# Altium integrated library ARAF_PERSONAL_INTEGRATED_LIBRARY.IntLib: 28 symbols
Pins are listed as number, name and electrical type; pins without a type are passive.

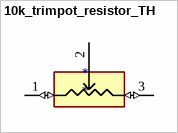
[diagram p0: symbol 10k_trimpot_resistor_TH]

## 10k_trimpot_resistor_TH
designator *
footprint TRIMPOT_TYPE1
pins: 1 (io), 2, 3 (io)


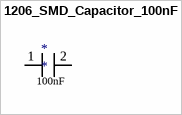
[diagram p1: symbol 1206_SMD_Capacitor_100nF]

## 1206_SMD_Capacitor_100nF
designator *
footprint 1206_SMD_Capacitor_100nF (Chip Capacitor, 2-Leads, Body 4.05x1.80mm, IPC Medium Density)
pins: 1, 2
text: 100nF


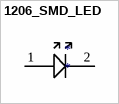
[diagram p2: symbol 1206_SMD_LED]

## 1206_SMD_LED
designator *
footprint 1206_SMD_LED
pins: 1 (power), 2 (power)


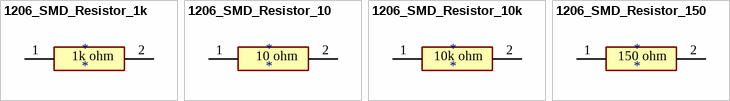
[diagram p3: symbols 1206_SMD_Resistor_1k to 1206_SMD_Resistor_150]

## 1206_SMD_Resistor_1k
designator *
footprint 1206_SMD_RESISTOR_1k (Chip Resistor, 2-Leads, Body 4.50x1.75mm, IPC Medium Density)
pins: 1, 2
text: 1k ohm

## 1206_SMD_Resistor_10
designator *
footprint 1206_SMD_RESISTOR_10 (Chip Resistor, 2-Leads, Body 4.50x1.75mm, IPC Medium Density)
pins: 1, 2
text: 10 ohm

## 1206_SMD_Resistor_10k
designator *
footprint 1206_SMD_RESISTOR_10k (Chip Resistor, 2-Leads, Body 4.50x1.75mm, IPC Medium Density)
pins: 1, 2
text: 10k ohm

## 1206_SMD_Resistor_150
designator *
footprint 1206_SMD_RESISTOR_150 (Chip Resistor, 2-Leads, Body 4.50x1.75mm, IPC Medium Density)
pins: 1, 2
text: 150 ohm


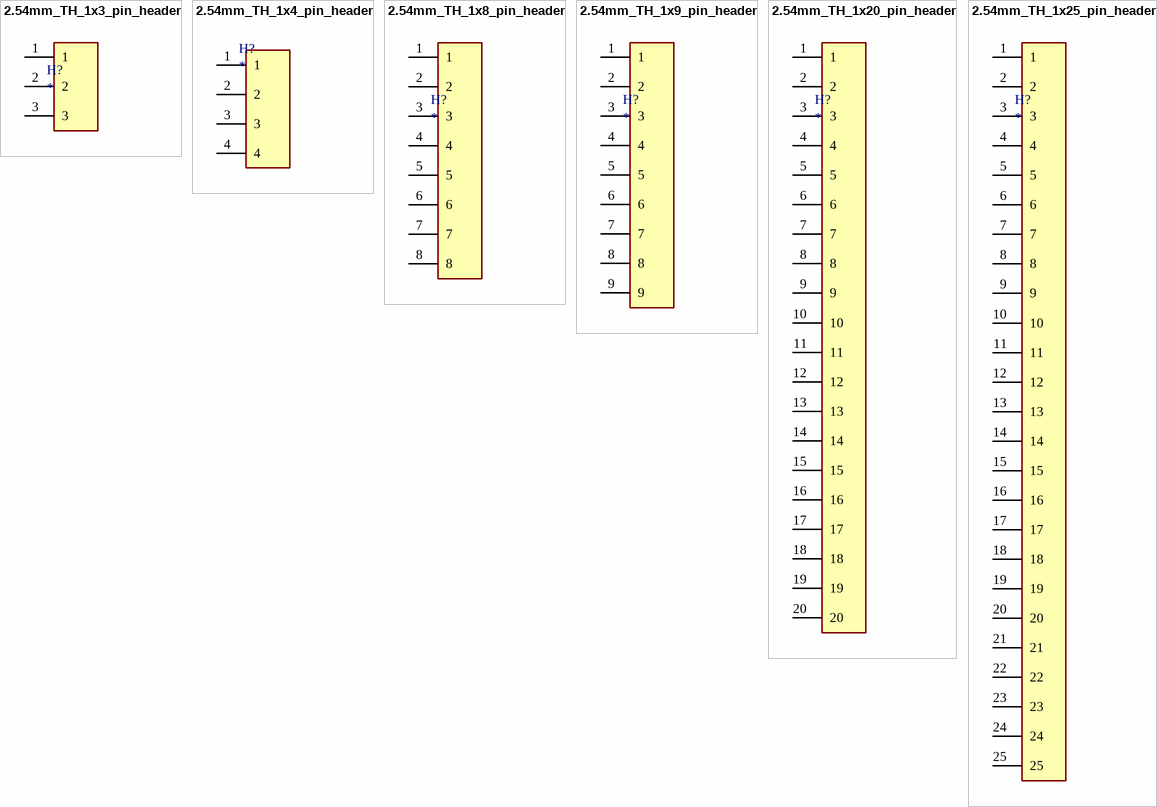
[diagram p4: symbols 2.54mm_TH_1x3_pin_header to 2.54mm_TH_1x25_pin_header]

## 2.54mm_TH_1x3_pin_header
designator H?
footprint 2.54mm_TH_1x3_pin_header
pins: 1, 2, 3

## 2.54mm_TH_1x4_pin_header
designator H?
footprint 2.54mm_TH_1x4_pin_header
pins: 1, 2, 3, 4

## 2.54mm_TH_1x8_pin_header
designator H?
footprint 2.54mm_TH_1x8_pin_header
pins: 1, 2, 3, 4, 5, 6, 7, 8

## 2.54mm_TH_1x9_pin_header
designator H?
footprint 2.54mm_TH_1x9_pin_header
pins: 1, 2, 3, 4, 5, 6, 7, 8, 9

## 2.54mm_TH_1x20_pin_header
designator H?
footprint 2.54mm_TH_1x20_pin_header
pins: 1, 2, 3, 4, 5, 6, 7, 8, 9, 10, 11, 12, 13, 14, 15, 16, 17, 18, 19, 20

## 2.54mm_TH_1x25_pin_header
designator H?
footprint 2.54mm_TH_1x25_pin_header
pins: 1, 2, 3, 4, 5, 6, 7, 8, 9, 10, 11, 12, 13, 14, 15, 16, 17, 18, 19, 20, 21, 22, 23, 24, 25


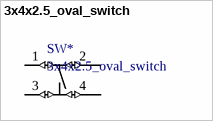
[diagram p5: symbol 3x4x2.5_oval_switch]

## 3x4x2.5_oval_switch
designator SW*
footprint 3x4x2.5_oval_button_footprint
pins: 1 (io), 2 (io), 3 (io), 4 (io)


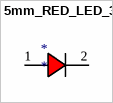
[diagram p6: symbol 5mm_RED_LED_3V]

## 5mm_RED_LED_3V
designator *
footprint 5mm_LED_3V
pins: 1, 2


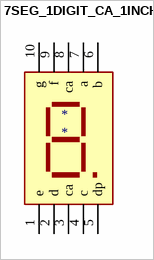
[diagram p7: symbol 7SEG_1DIGIT_CA_1INCH]

## 7SEG_1DIGIT_CA_1INCH
designator *
footprint 7SEG_1DIGIT_CA_1INCH
pins: 1 e, 2 d, 3 ca (power), 4 c, 5 dp, 6 b, 7 a, 8 ca (power), 9 f, 10 g


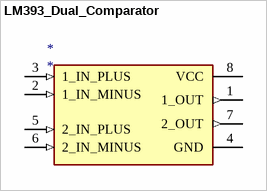
[diagram p8: symbol LM393_Dual_Comparator]

## LM393_Dual_Comparator
designator *
footprint LM393_Dual_Comparator
pins: 1 1_OUT (out), 2 1_IN_MINUS (in), 3 1_IN_PLUS (in), 4 GND (power), 5 2_IN_PLUS (in), 6 2_IN_MINUS (in), 7 2_OUT (out), 8 VCC (power)


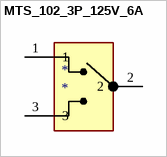
[diagram p9: symbol MTS_102_3P_125V_6A]

## MTS_102_3P_125V_6A
designator *
footprint MTS_102_3P_125V_6A
pins: 1 (power), 2 (power), 3 (power)


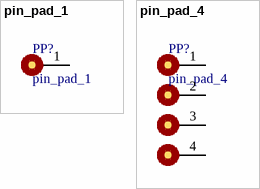
[diagram p10: symbols pin_pad_1 to pin_pad_4]

## pin_pad_1
designator PP?
footprint pinpad_1
pins: 1

## pin_pad_4
designator PP?
footprint pinpad_4
pins: 1, 2, 3, 4


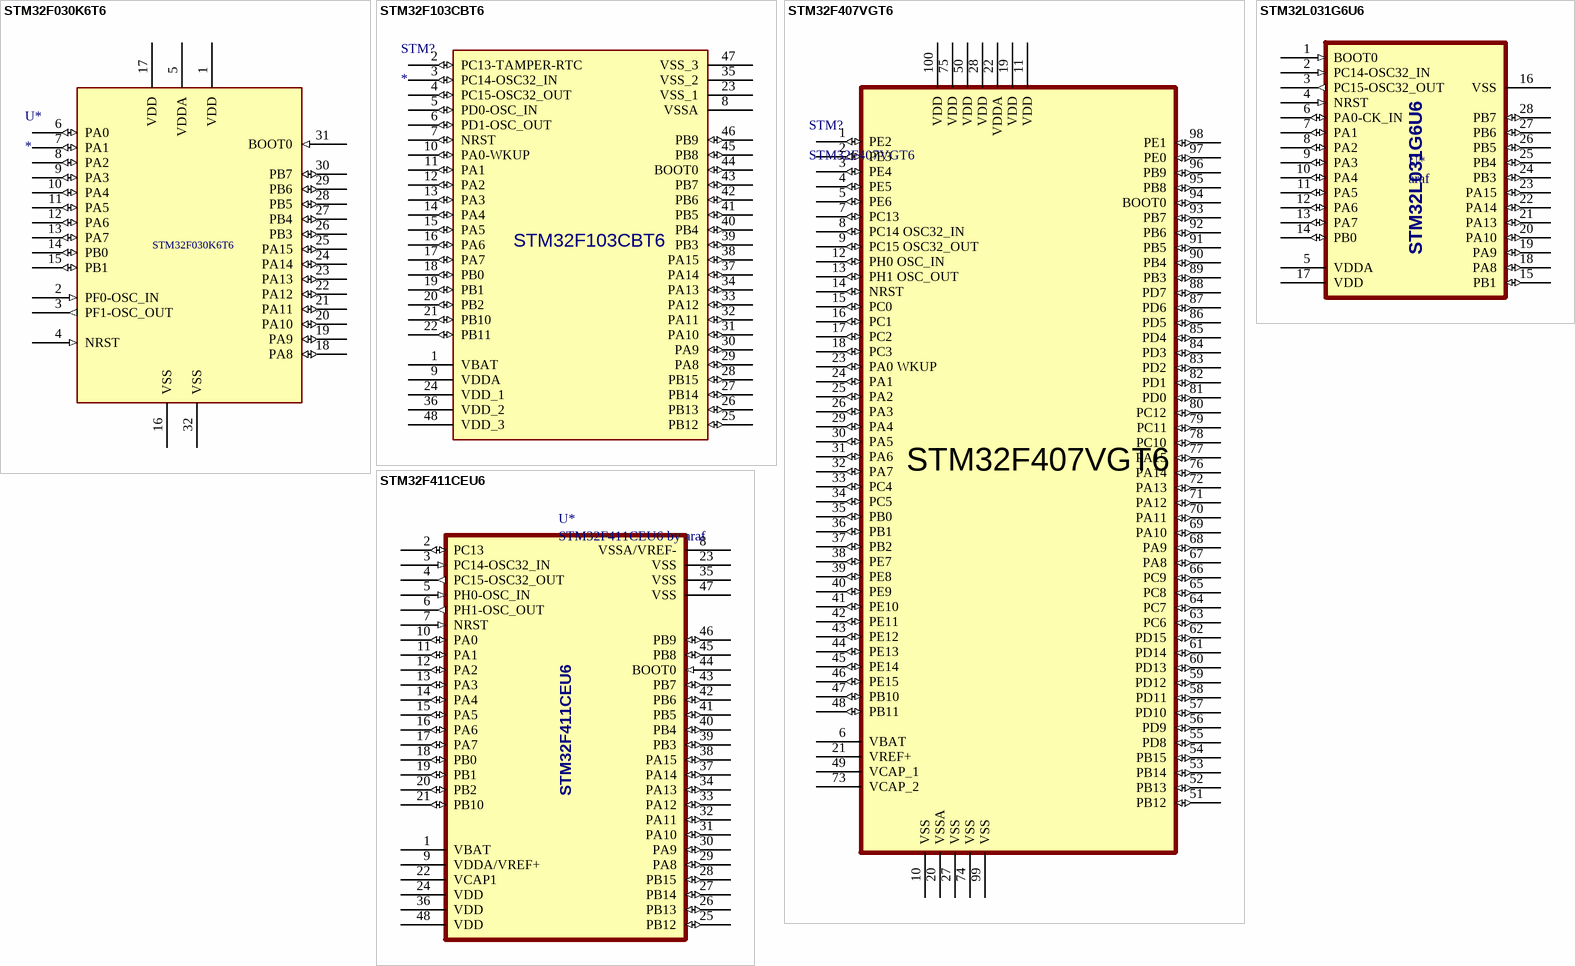
[diagram p11: symbols STM32F030K6T6 to STM32L031G6U6]

## STM32F030K6T6
designator U*
Pin Number: 32; Memory Size: 32KB; Speed: 48Mhz; Ram Size: 4KB; ComponentLink1Description: aliexpress_link; ComponentLink1URL: https://www.aliexpress.com/item/1005003777679758.html?spm=a2g0o.order_list.order_list_main.51.54fd1802wI9Dox; ComponentLink2Description: datasheet; ComponentLink2URL: https://www.lcsc.com/datasheet/lcsc_datasheet_2304140030_STMicroelectronics-STM32F030K6T6_C46830.pdf; Package Size: 32-LQFP; Stock: 8; LCSC Part: C46830; Series: STM32F0
footprint STM32F030K6T6_Footprint
pins: 1 VDD (power), 2 PF0-OSC_IN (in), 3 PF1-OSC_OUT (out), 4 NRST (in), 5 VDDA (power), 6 PA0 (io), 7 PA1 (io), 8 PA2 (io), 9 PA3 (io), 10 PA4 (io), 11 PA5 (io), 12 PA6 (io), 13 PA7 (io), 14 PB0 (io), 15 PB1 (io), 16 VSS (power), 17 VDD (power), 18 PA8 (io), 19 PA9 (io), 20 PA10 (io), 21 PA11 (io), 22 PA12 (io), 23 PA13 (io), 24 PA14 (io), 25 PA15 (io), 26 PB3 (io), 27 PB4 (io), 28 PB5 (io), 29 PB6 (io), 30 PB7 (io), 31 BOOT0 (in), 32 VSS (power)

## STM32F103CBT6
designator STM?
128KB 2V~3.6V ARM-M3 20KB 72MHz FLASH 37 LQFP-48(7x7) Microcontrollers (MCU/MPU/SOC) ROHS; MFR.Part #: STM32F103CBT6; JLCPCB Part #: C8304; Package: LQFP-48; ComponentLink1Description: Datasheet; ComponentLink1URL: https://www.st.com/resource/en/datasheet/cd00161566.pdf; ComponentLink2Description: JLCPCB Parts; ComponentLink2URL: https://jlcpcb.com/partdetail/Stmicroelectronics-STM32F103CBT6/C8304
footprint STM32F103CBT6_FOOTPRINT (TSQFP, 48-Leads, Body 7.00x7.00mm, Pitch 0.50mm, IPC Medium Density)
pins: 1 VBAT (power), 2 PC13-TAMPER-RTC (io), 3 PC14-OSC32_IN (io), 4 PC15-OSC32_OUT (io), 5 PD0-OSC_IN (io), 6 PD1-OSC_OUT (io), 7 NRST (io), 8 VSSA (power), 9 VDDA (power), 10 PA0-WKUP (io), 11 PA1 (io), 12 PA2 (io), 13 PA3 (io), 14 PA4 (io), 15 PA5 (io), 16 PA6 (io), 17 PA7 (io), 18 PB0 (io), 19 PB1 (io), 20 PB2 (io), 21 PB10 (io), 22 PB11 (io), 23 VSS_1 (power), 24 VDD_1 (power), 25 PB12 (io), 26 PB13 (io), 27 PB14 (io), 28 PB15 (io), 29 PA8 (io), 30 PA9 (io), 31 PA10 (io), 32 PA11 (io), 33 PA12 (io), 34 PA13 (io), 35 VSS_2 (power), 36 VDD_2 (power), 37 PA14 (io), 38 PA15 (io), 39 PB3 (io), 40 PB4 (io), 41 PB5 (io), 42 PB6 (io), 43 PB7 (io), 44 BOOT0 (io), 45 PB8 (io), 46 PB9 (io), 47 VSS_3 (power), 48 VDD_3 (power)

## STM32F407VGT6
designator STM?
1MB 1.8V~3.6V ARM-M4 192KB 168MHz FLASH 82 LQFP-100(14x14) Microcontrollers (MCU/MPU/SOC) ROHS; JLCPCB Part #: C12345; Package: LQFP-100(14x14); MFR.Part #: STM32F407VGT6; ComponentLink1Description: Datasheet; ComponentLink1URL: https://www.st.com/resource/en/datasheet/dm00037051.pdf; ComponentLink2Description: JLCPCB Parts; ComponentLink2URL: https://jlcpcb.com/partdetail/Stmicroelectronics-STM32F407VGT6/C12345
footprint STM32F407VGT6_FOOTPRINT
pins: 1 PE2 (io), 2 PE3 (io), 3 PE4 (io), 4 PE5 (io), 5 PE6 (io), 6 VBAT (power), 7 PC13 (io), 8 PC14 OSC32_IN (io), 9 PC15 OSC32_OUT (io), 10 VSS (power), 11 VDD (power), 12 PH0 OSC_IN (io), 13 PH1 OSC_OUT (io), 14 NRST (io), 15 PC0 (io), 16 PC1 (io), 17 PC2 (io), 18 PC3 (io), 19 VDD (power), 20 VSSA (power), 21 VREF+ (power), 22 VDDA (power), 23 PA0 WKUP (io), 24 PA1 (io), 25 PA2 (io), 26 PA3 (io), 27 VSS (power), 28 VDD (power), 29 PA4 (io), 30 PA5 (io), 31 PA6 (io), 32 PA7 (io), 33 PC4 (io), 34 PC5 (io), 35 PB0 (io), 36 PB1 (io), 37 PB2 (io), 38 PE7 (io), 39 PE8 (io), 40 PE9 (io), 41 PE10 (io), 42 PE11 (io), 43 PE12 (io), 44 PE13 (io), 45 PE14 (io), 46 PE15 (io), 47 PB10 (io), 48 PB11 (io), 49 VCAP_1 (power), 50 VDD (power), 51 PB12 (io), 52 PB13 (io), 53 PB14 (io), 54 PB15 (io), 55 PD8 (io), 56 PD9 (io), 57 PD10 (io), 58 PD11 (io), 59 PD12 (io), 60 PD13 (io), 61 PD14 (io), 62 PD15 (io), 63 PC6 (io), 64 PC7 (io), 65 PC8 (io), 66 PC9 (io), 67 PA8 (io), 68 PA9 (io), 69 PA10 (io), 70 PA11 (io), 71 PA12 (io), 72 PA13 (io), 73 VCAP_2 (power), 74 VSS (power), 75 VDD (power), 76 PA14 (io), 77 PA15 (io), 78 PC10 (io), 79 PC11 (io), 80 PC12 (io), 81 PD0 (io), 82 PD1 (io), 83 PD2 (io), 84 PD3 (io), 85 PD4 (io), 86 PD5 (io), 87 PD6 (io), 88 PD7 (io), 89 PB3 (io), 90 PB4 (io), 91 PB5 (io), 92 PB6 (io), 93 PB7 (io), 94 BOOT0 (io), 95 PB8 (io), 96 PB9 (io), 97 PE0 (io), 98 PE1 (io), 99 VSS (power), 100 VDD (power)

## STM32F411CEU6
designator U*, comment STM32F411CEU6 by araf
footprint STM32F411CEU6_Footprint
pins: 1 VBAT (power), 2 PC13 (io), 3 PC14-OSC32_IN (in), 4 PC15-OSC32_OUT (out), 5 PH0-OSC_IN (in), 6 PH1-OSC_OUT (out), 7 NRST (in), 8 VSSA/VREF- (power), 9 VDDA/VREF+ (power), 10 PA0 (io), 11 PA1 (io), 12 PA2 (io), 13 PA3 (io), 14 PA4 (io), 15 PA5 (io), 16 PA6 (io), 17 PA7 (io), 18 PB0 (io), 19 PB1 (io), 20 PB2 (io), 21 PB10 (io), 22 VCAP1 (power), 23 VSS (power), 24 VDD (power), 25 PB12 (io), 26 PB13 (io), 27 PB14 (io), 28 PB15 (io), 29 PA8 (io), 30 PA9 (io), 31 PA10 (io), 32 PA11 (io), 33 PA12 (io), 34 PA13 (io), 35 VSS (power), 36 VDD (power), 37 PA14 (io), 38 PA15 (io), 39 PB3 (io), 40 PB4 (io), 41 PB5 (io), 42 PB6 (io), 43 PB7 (io), 44 BOOT0 (in), 45 PB8 (io), 46 PB9 (io), 47 VSS (power), 48 VDD (power)

## STM32L031G6U6
designator U*, comment araf
footprint STM32L031G6U6_Footprint (PQFN, 28-Leads, Body 4.00x4.00mm, Pitch 0.50mm, IPC Medium Density)
pins: 1 BOOT0 (in), 2 PC14-OSC32_IN (in), 3 PC15-OSC32_OUT (out), 4 NRST (in), 5 VDDA (power), 6 PA0-CK_IN (io), 7 PA1 (io), 8 PA2 (io), 9 PA3 (io), 10 PA4 (io), 11 PA5 (io), 12 PA6 (io), 13 PA7 (io), 14 PB0 (io), 15 PB1 (io), 16 VSS (power), 17 VDD (power), 18 PA8 (io), 19 PA9 (io), 20 PA10 (io), 21 PA13 (io), 22 PA14 (io), 23 PA15 (io), 24 PB3 (io), 25 PB4 (io), 26 PB5 (io), 27 PB6 (io), 28 PB7 (io)


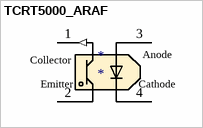
[diagram p12: symbol TCRT5000_ARAF]

## TCRT5000_ARAF
designator *
footprint TCRT5000_Footprint_ARAF
pins: 1 (out), 2, 3 (power), 4
text: Collector; Anode; Emitter; Cathode


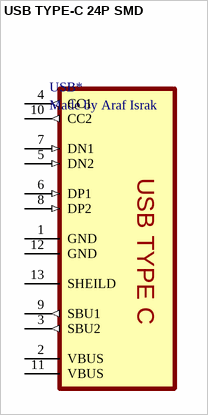
[diagram p13: symbol USB TYPE-C 24P SMD]

## USB TYPE-C 24P SMD
designator USB*, comment Made by Araf Israk
USB Type: TYPE-C 16PIN / 24PIN; Gender: Female; Current Rating: 5 Amp; Voltage Rating: 3.3V - 48V; Pin Number: 16; ComponentLink1Description: lcsc; ComponentLink1URL: https://www.lcsc.com/product-detail/USB-Connectors_SHOU-HAN-TYPE-C-16PIN-2MD-073_C2765186.html; ComponentLink2Description: datasheet 1; ComponentLink2URL: https://www.lcsc.com/datasheet/lcsc_datasheet_2111231930_SHOU-HAN-TYPE-C-16PIN-2MD-073_C2765186.pdf; ComponentLink3Description: datasheet 2; ComponentLink3URL: https://www.digikey.com/en/products/detail/gct/USB4105-GF-A/11198441; ComponentLink4Description: aliexpress; ComponentLink4URL: https://www.aliexpress.com/item/1005006353547160.html?spm=a2g0o.order_list.order_list_main.61.296f18023vUA5z; LCSC Part: C2765186; Stock: ~30
footprint USB TYPE-C 24P SMD
pins: 1 GND (power), 2 VBUS (power), 3 SBU2 (out), 4 CC1 (out), 5 DN2 (in), 6 DP1 (in), 7 DN1 (in), 8 DP2 (in), 9 SBU1 (out), 10 CC2 (out), 11 VBUS (power), 12 GND (power), 13 SHEILD
text: USB TYPE C


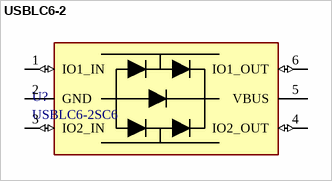
[diagram p14: symbol USBLC6-2]

## USBLC6-2
designator U?, comment USBLC6-2SC6
The USBLC6-2SC6 and USBLC6-2P6 are / monolithic application specific devices dedicated / to ESD protection of high speed interfaces, such / as USB 2.0, Ethernet links and video lines. / The very low line capacitance secures a high level / of signal integrity without compromising in / protecting sensitive chips against the most / stringently characterized ESD strikes.; ComponentLink1Description: JLCPCB; ComponentLink1URL: https://jlcpcb.com/partdetail/Stmicroelectronics-USBLC62SC6/C7519; ComponentLink2Description: Datasheet; ComponentLink2URL: https://www.st.com/resource/en/datasheet/usblc6-2.pdf; JLCPCB Part #: C7519
footprint USBLC6-2SC6_Footprint (SOT23, 6-Leads, Body 2.93x2.80mm, Pitch 0.95mm, IPC Medium Density)
pins: 1 IO1_IN (io), 2 GND (power), 3 IO2_IN (io), 4 IO2_OUT (io), 5 VBUS (power), 6 IO1_OUT (io)